# Altium schematic symbol library ISO1042xDWVR.SCHLIB: 1 symbol
Pins are listed as number, name and electrical type; pins without a type are passive.

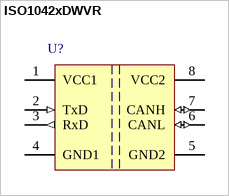
[diagram p0: symbol ISO1042xDWVR]

## ISO1042xDWVR
designator U?
pins: 1 VCC1 (power), 2 TxD (in), 3 RxD (out), 4 GND1 (power), 5 GND2 (power), 6 CANL (io), 7 CANH (io), 8 VCC2 (power)